# EAGLE library part SI4435DY (library SI4435DY)
MOSFET P-Ch 30V 8.8A PowerTrench SOIC8 Source: Datasheet <https://www.onsemi.com/pdf/datasheet/si4435dy-d.pdf>
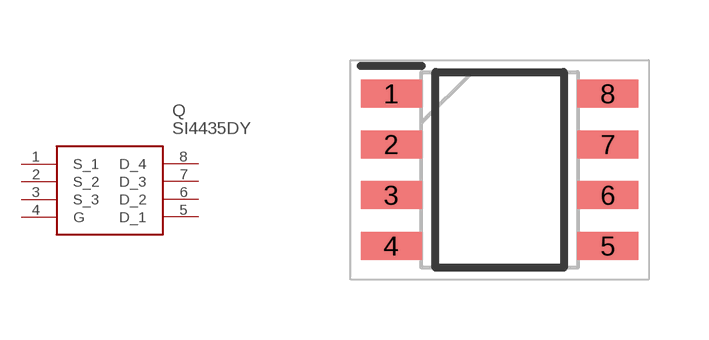
[diagram p0: symbol with the pads of SOIC127P600X175-8N; footprint SOIC127P600X175-8N]

Designator prefix Q

## SI4435DY (Description: MOSFET P-Ch 30V 8.8A PowerTrench SOIC8; Height: 1.75mm; Manufacturer_Name: onsemi; Manufacturer_Part_Number: SI4435DY)  [SOIC127P600X175-8N]
1  S_1
2  S_2
3  S_3
4  G
5  D_1
6  D_2
7  D_3
8  D_4

## Footprint SOIC127P600X175-8N (pad centres in mm)
SOIC8
smd 1.525 x 0.7: 1 -2.712,1.905; 2 -2.712,0.635; 3 -2.712,-0.635; 4 -2.712,-1.905; 5 2.712,-1.905; 6 2.712,-0.635; 7 2.712,0.635; 8 2.712,1.905